# EAGLE library part AM26LV32EIPWR (library Line_Drivers)
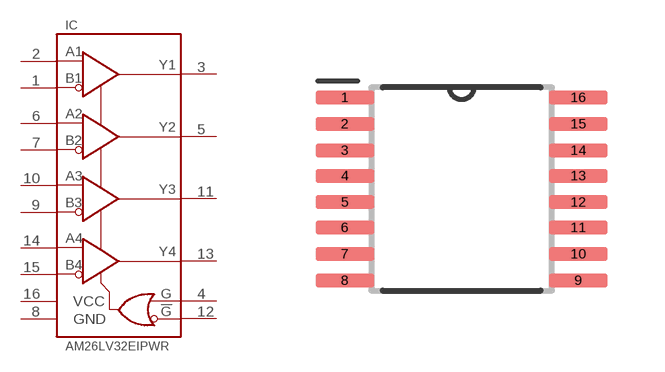
[diagram p2: symbol with the pads of TSSOP16; footprint TSSOP16]

Designator prefix IC

## AM26LV32EIPWR  [TSSOP16]
1  B1  in
2  A1  in
3  Y1  out
4  G  in
5  Y2  out
6  A2  in
7  B2  in
8  GND  pwr
9  B3  in
10  A3  in
11  Y3  out
12  !G  in
13  Y4  out
14  A4  in
15  B4  in
16  VCC  pwr

## Footprint TSSOP16 (pad centres in mm)
smd 1.473 x 0.356: 1 -2.921,2.286; 2 -2.921,1.626; 3 -2.921,0.965; 4 -2.921,0.33; 5 -2.921,-0.33; 6 -2.921,-0.965; 7 -2.921,-1.626; 8 -2.921,-2.286; 9 2.921,-2.286; 10 2.921,-1.626; 11 2.921,-0.965; 12 2.921,-0.33; 13 2.921,0.33; 14 2.921,0.965; 15 2.921,1.626; 16 2.921,2.286